# Altium footprint library 613 0xx 257 21.PcbLib: 14 footprints
Each footprint in its own frame and in the unit in brackets; x right, y up, seen from the top. Pads: shape width x height; smd on the part's side, far side on the other; paste and mask are expansions set on the pad; w line width, h text height; cw(c..) or ccw(c..) is an arc to the next point about the centre after c.
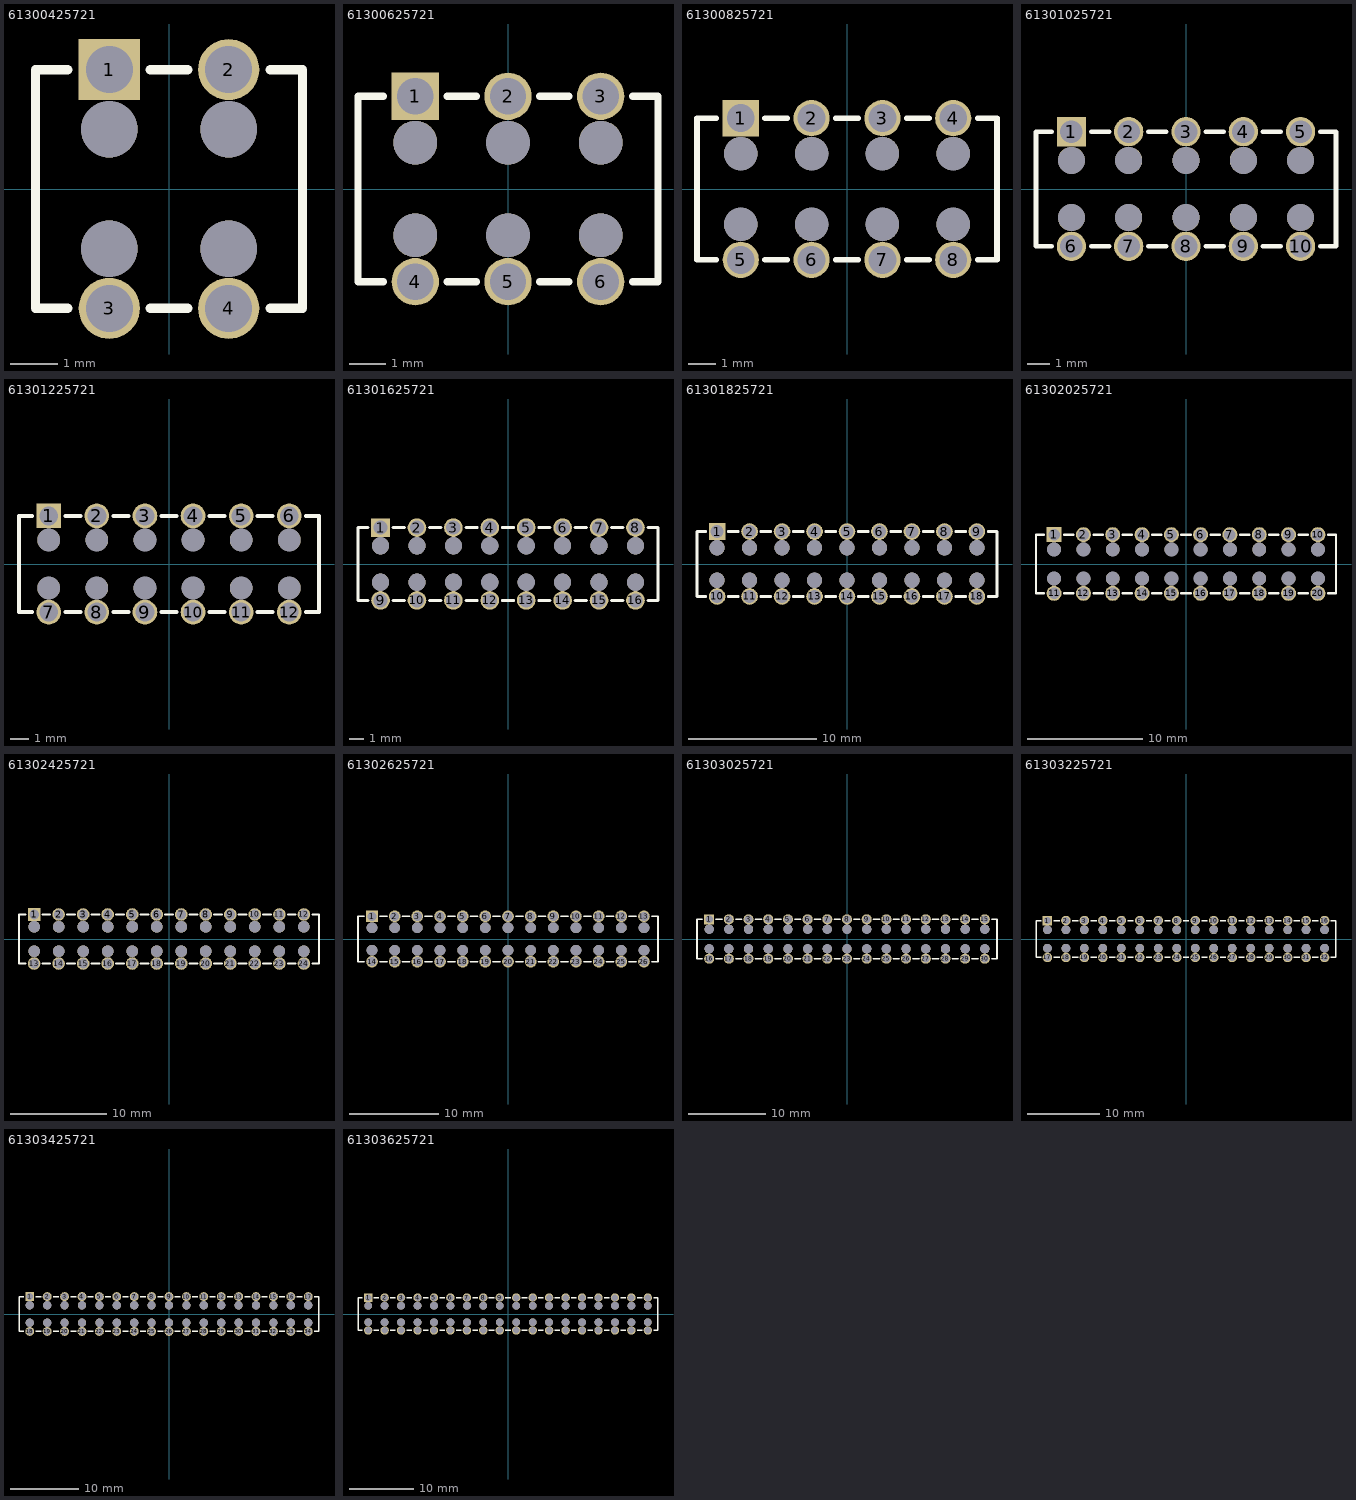
[diagram p0: the footprints below, top view; thin cyan lines are the x and y axes]

## 61300425721 [mm] "4 pins, dual row, straight, gold plating"
height 5
pads (8):
  rect 1.3x1.3 hole 1: 1(-1.27,2.54)
  round 1.3 hole 1: 2(1.27,2.54) 3(-1.27,-2.54) 4(1.27,-2.54)
  round 1.2 hole 1.2 unplated mask+0: ""(-1.27,-1.27) ""(-1.27,1.27) ""(1.27,-1.27) ""(1.27,1.27)
Top Overlay:
  lines w0.2: -2.15,-2.54 -2.84,-2.54 -2.84,2.54 -2.15,2.54 ; -0.4,-2.54 0.4,-2.54 ; -0.4,2.54 0.4,2.54 ; 2.15,-2.54 2.84,-2.54 2.84,2.54 2.15,2.54
3D body "61300425721.stp": height 5.1, standoff -3, extent -2.84,-2.665 2.84,2.665

## 61300625721 [mm] "6 pins, dual row, straight, gold plating"
height 5
pads (12):
  rect 1.3x1.3 hole 1: 1(-2.54,2.54)
  round 1.3 hole 1: 2(0,2.54) 3(2.54,2.54) 4(-2.54,-2.54) 5(0,-2.54) 6(2.54,-2.54)
  round 1.2 hole 1.2 unplated mask+0: ""(-2.54,-1.27) ""(-2.54,1.27) ""(0,-1.27) ""(0,1.27) ""(2.54,-1.27) ""(2.54,1.27)
Top Overlay:
  lines w0.2: -3.42,-2.54 -4.11,-2.54 -4.11,2.54 -3.42,2.54 ; -1.67,-2.54 -0.87,-2.54 ; -1.67,2.54 -0.87,2.54 ; 0.87,-2.54 1.67,-2.54 ; 0.87,2.54 1.67,2.54 ; 3.42,-2.54 4.11,-2.54 4.11,2.54 3.42,2.54
3D body "61300625721.stp": height 5.1, standoff -3, extent -4.11,-2.665 4.11,2.665

## 61300825721 [mm] "8 pins, dual row, straight, gold plating"
height 5
pads (16):
  rect 1.3x1.3 hole 1: 1(-3.81,2.54)
  round 1.3 hole 1: 2(-1.27,2.54) 3(1.27,2.54) 4(3.81,2.54) 5(-3.81,-2.54) 6(-1.27,-2.54) 7(1.27,-2.54) 8(3.81,-2.54)
  round 1.2 hole 1.2 unplated mask+0: ""(-3.81,-1.27) ""(-3.81,1.27) ""(-1.27,-1.27) ""(-1.27,1.27) ""(1.27,-1.27) ""(1.27,1.27) ""(3.81,-1.27) ""(3.81,1.27)
Top Overlay:
  lines w0.2: -4.69,-2.54 -5.38,-2.54 -5.38,2.54 -4.69,2.54 ; -2.94,-2.54 -2.14,-2.54 ; -2.94,2.54 -2.14,2.54 ; -0.4,-2.54 0.4,-2.54 ; -0.4,2.54 0.4,2.54 ; 2.14,-2.54 2.94,-2.54 ; 2.14,2.54 2.94,2.54 ; 4.69,-2.54 5.38,-2.54 5.38,2.54 4.69,2.54
3D body "61300825721.stp": height 5.1, standoff -3, extent -5.38,-2.665 5.38,2.665

## 61301025721 [mm] "10 pins, dual row, straight, gold plating"
height 5
pads (20):
  rect 1.3x1.3 hole 1: 1(-5.08,2.54)
  round 1.3 hole 1: 2(-2.54,2.54) 3(0,2.54) 4(2.54,2.54) 5(5.08,2.54) 6(-5.08,-2.54) 7(-2.54,-2.54) 8(0,-2.54) 9(2.54,-2.54) 10(5.08,-2.54)
  round 1.2 hole 1.2 unplated mask+0: ""(-5.08,-1.27) ""(-5.08,1.27) ""(-2.54,-1.27) ""(-2.54,1.27) ""(0,-1.27) ""(0,1.27) ""(2.54,-1.27) ""(2.54,1.27) ""(5.08,-1.27) ""(5.08,1.27)
Top Overlay:
  lines w0.2: -5.96,-2.54 -6.65,-2.54 -6.65,2.54 -5.96,2.54 ; -4.21,-2.54 -3.41,-2.54 ; -4.21,2.54 -3.41,2.54 ; -1.67,-2.54 -0.87,-2.54 ; -1.67,2.54 -0.87,2.54 ; 0.87,-2.54 1.67,-2.54 ; 0.87,2.54 1.67,2.54 ; 3.41,-2.54 4.21,-2.54 ; 3.41,2.54 4.21,2.54 ; 5.96,-2.54 6.65,-2.54 6.65,2.54 5.96,2.54
3D body "61301025721.stp": height 5.1, standoff -3, extent -6.65,-2.665 6.65,2.665

## 61301225721 [mm] "12 pins, dual row, straight, gold plating"
height 5
pads (24):
  rect 1.3x1.3 hole 1: 1(-6.35,2.54)
  round 1.3 hole 1: 2(-3.81,2.54) 3(-1.27,2.54) 4(1.27,2.54) 5(3.81,2.54) 6(6.35,2.54) 7(-6.35,-2.54) 8(-3.81,-2.54) 9(-1.27,-2.54) 10(1.27,-2.54) 11(3.81,-2.54) 12(6.35,-2.54)
  round 1.2 hole 1.2 unplated mask+0: ""(-6.35,-1.27) ""(-6.35,1.27) ""(-3.81,-1.27) ""(-3.81,1.27) ""(-1.27,-1.27) ""(-1.27,1.27) ""(1.27,-1.27) ""(1.27,1.27) ""(3.81,-1.27) ""(3.81,1.27) ""(6.35,-1.27) ""(6.35,1.27)
Top Overlay:
  lines w0.2: -7.23,-2.54 -7.92,-2.54 -7.92,2.54 -7.23,2.54 ; -5.48,-2.54 -4.68,-2.54 ; -5.48,2.54 -4.68,2.54 ; -2.94,-2.54 -2.14,-2.54 ; -2.94,2.54 -2.14,2.54 ; -0.4,-2.54 0.4,-2.54 ; -0.4,2.54 0.4,2.54 ; 2.14,-2.54 2.94,-2.54 ; 2.14,2.54 2.94,2.54 ; 4.68,-2.54 5.48,-2.54 ; 4.68,2.54 5.48,2.54 ; 7.23,-2.54 7.92,-2.54 7.92,2.54 7.23,2.54
3D body "61301225721.stp": height 5.1, standoff -3, extent -7.92,-2.665 7.92,2.665

## 61301625721 [mm] "16 pins, dual row, straight, gold plating"
height 5
pads (32):
  rect 1.3x1.3 hole 1: 1(-8.89,2.54)
  round 1.3 hole 1: 2(-6.35,2.54) 3(-3.81,2.54) 4(-1.27,2.54) 5(1.27,2.54) 6(3.81,2.54) 7(6.35,2.54) 8(8.89,2.54) 9(-8.89,-2.54) 10(-6.35,-2.54) 11(-3.81,-2.54) 12(-1.27,-2.54) 13(1.27,-2.54) 14(3.81,-2.54) 15(6.35,-2.54) 16(8.89,-2.54)
  round 1.2 hole 1.2 unplated mask+0: ""(-8.89,-1.27) ""(-8.89,1.27) ""(-6.35,-1.27) ""(-6.35,1.27) ""(-3.81,-1.27) ""(-3.81,1.27) ""(-1.27,-1.27) ""(-1.27,1.27) ""(1.27,-1.27) ""(1.27,1.27) ""(3.81,-1.27) ""(3.81,1.27) ""(6.35,-1.27) ""(6.35,1.27) ""(8.89,-1.27) ""(8.89,1.27)
Top Overlay:
  lines w0.2: -9.77,-2.54 -10.46,-2.54 -10.46,2.54 -9.77,2.54 ; -8.02,-2.54 -7.22,-2.54 ; -8.02,2.54 -7.22,2.54 ; -5.48,-2.54 -4.68,-2.54 ; -5.48,2.54 -4.68,2.54 ; -2.94,-2.54 -2.14,-2.54 ; -2.94,2.54 -2.14,2.54 ; -0.4,-2.54 0.4,-2.54 ; -0.4,2.54 0.4,2.54 ; 2.14,-2.54 2.94,-2.54 ; 2.14,2.54 2.94,2.54 ; 4.68,-2.54 5.48,-2.54 ; 4.68,2.54 5.48,2.54 ; 7.22,-2.54 8.02,-2.54 ; 7.22,2.54 8.02,2.54 ; 9.77,-2.54 10.46,-2.54 10.46,2.54 9.77,2.54
3D body "61301625721.stp": height 5.1, standoff -3, extent -10.46,-2.665 10.46,2.665

## 61301825721 [mm] "18 pins, dual row, straight, gold plating"
height 5
pads (36):
  rect 1.3x1.3 hole 1: 1(-10.16,2.54)
  round 1.3 hole 1: 2(-7.62,2.54) 3(-5.08,2.54) 4(-2.54,2.54) 5(0,2.54) 6(2.54,2.54) 7(5.08,2.54) 8(7.62,2.54) 9(10.16,2.54) 10(-10.16,-2.54) 11(-7.62,-2.54) 12(-5.08,-2.54) 13(-2.54,-2.54) 14(0,-2.54) 15(2.54,-2.54) 16(5.08,-2.54) 17(7.62,-2.54) 18(10.16,-2.54)
  round 1.2 hole 1.2 unplated mask+0: ""(-10.16,-1.27) ""(-10.16,1.27) ""(-7.62,-1.27) ""(-7.62,1.27) ""(-5.08,-1.27) ""(-5.08,1.27) ""(-2.54,-1.27) ""(-2.54,1.27) ""(0,-1.27) ""(0,1.27) ""(2.54,-1.27) ""(2.54,1.27) ""(5.08,-1.27) ""(5.08,1.27) ""(7.62,-1.27) ""(7.62,1.27) ""(10.16,-1.27) ""(10.16,1.27)
Top Overlay:
  lines w0.2: -11.04,-2.54 -11.73,-2.54 -11.73,2.54 -11.04,2.54 ; -9.29,-2.54 -8.49,-2.54 ; -9.29,2.54 -8.49,2.54 ; -6.75,-2.54 -5.95,-2.54 ; -6.75,2.54 -5.95,2.54 ; -4.21,-2.54 -3.41,-2.54 ; -4.21,2.54 -3.41,2.54 ; -1.67,-2.54 -0.87,-2.54 ; -1.67,2.54 -0.87,2.54 ; 0.87,-2.54 1.67,-2.54 ; 0.87,2.54 1.67,2.54 ; 3.41,-2.54 4.21,-2.54 ; 3.41,2.54 4.21,2.54 ; 5.95,-2.54 6.75,-2.54 ; 5.95,2.54 6.75,2.54 ; 8.49,-2.54 9.29,-2.54 ; 8.49,2.54 9.29,2.54 ; 11.04,-2.54 11.73,-2.54 11.73,2.54 11.04,2.54
3D body "61301825721.stp": height 5.1, standoff -3, extent -11.73,-2.665 11.73,2.665

## 61302025721 [mm] "20 pins, dual row, straight, gold plating"
height 5
pads (40):
  rect 1.3x1.3 hole 1: 1(-11.43,2.54)
  round 1.3 hole 1: 2(-8.89,2.54) 3(-6.35,2.54) 4(-3.81,2.54) 5(-1.27,2.54) 6(1.27,2.54) 7(3.81,2.54) 8(6.35,2.54) 9(8.89,2.54) 10(11.43,2.54) 11(-11.43,-2.54) 12(-8.89,-2.54) 13(-6.35,-2.54) 14(-3.81,-2.54) 15(-1.27,-2.54) 16(1.27,-2.54) 17(3.81,-2.54) 18(6.35,-2.54) 19(8.89,-2.54) 20(11.43,-2.54)
  round 1.2 hole 1.2 unplated mask+0: ""(-11.43,-1.27) ""(-11.43,1.27) ""(-8.89,-1.27) ""(-8.89,1.27) ""(-6.35,-1.27) ""(-6.35,1.27) ""(-3.81,-1.27) ""(-3.81,1.27) ""(-1.27,-1.27) ""(-1.27,1.27) ""(1.27,-1.27) ""(1.27,1.27) ""(3.81,-1.27) ""(3.81,1.27) ""(6.35,-1.27) ""(6.35,1.27) ""(8.89,-1.27) ""(8.89,1.27) ""(11.43,-1.27) ""(11.43,1.27)
Top Overlay:
  lines w0.2: -12.31,-2.54 -13,-2.54 -13,2.54 -12.31,2.54 ; -10.56,-2.54 -9.76,-2.54 ; -10.56,2.54 -9.76,2.54 ; -8.02,-2.54 -7.22,-2.54 ; -8.02,2.54 -7.22,2.54 ; -5.48,-2.54 -4.68,-2.54 ; -5.48,2.54 -4.68,2.54 ; -2.94,-2.54 -2.14,-2.54 ; -2.94,2.54 -2.14,2.54 ; -0.4,-2.54 0.4,-2.54 ; -0.4,2.54 0.4,2.54 ; 2.14,-2.54 2.94,-2.54 ; 2.14,2.54 2.94,2.54 ; 4.68,-2.54 5.48,-2.54 ; 4.68,2.54 5.48,2.54 ; 7.22,-2.54 8.02,-2.54 ; 7.22,2.54 8.02,2.54 ; 9.76,-2.54 10.56,-2.54 ; 9.76,2.54 10.56,2.54 ; 12.31,-2.54 13,-2.54 13,2.54 12.31,2.54
3D body "61302025721.stp": height 5.1, standoff -3, extent -13,-2.665 13,2.665

## 61302425721 [mm] "24 pins, dual row, straight, gold plating"
height 5
pads (48):
  rect 1.3x1.3 hole 1: 1(-13.97,2.54)
  round 1.3 hole 1: 2(-11.43,2.54) 3(-8.89,2.54) 4(-6.35,2.54) 5(-3.81,2.54) 6(-1.27,2.54) 7(1.27,2.54) 8(3.81,2.54) 9(6.35,2.54) 10(8.89,2.54) 11(11.43,2.54) 12(13.97,2.54) 13(-13.97,-2.54) 14(-11.43,-2.54) 15(-8.89,-2.54) 16(-6.35,-2.54) 17(-3.81,-2.54) 18(-1.27,-2.54) 19(1.27,-2.54) 20(3.81,-2.54) 21(6.35,-2.54) 22(8.89,-2.54) 23(11.43,-2.54) 24(13.97,-2.54)
  round 1.2 hole 1.2 unplated mask+0: ""(-13.97,-1.27) ""(-13.97,1.27) ""(-11.43,-1.27) ""(-11.43,1.27) ""(-8.89,-1.27) ""(-8.89,1.27) ""(-6.35,-1.27) ""(-6.35,1.27) ""(-3.81,-1.27) ""(-3.81,1.27) ""(-1.27,-1.27) ""(-1.27,1.27) ""(1.27,-1.27) ""(1.27,1.27) ""(3.81,-1.27) ""(3.81,1.27) ""(6.35,-1.27) ""(6.35,1.27) ""(8.89,-1.27) ""(8.89,1.27) ""(11.43,-1.27) ""(11.43,1.27) ""(13.97,-1.27) ""(13.97,1.27)
Top Overlay:
  lines w0.2: -14.85,-2.54 -15.54,-2.54 -15.54,2.54 -14.85,2.54 ; -13.1,-2.54 -12.3,-2.54 ; -13.1,2.54 -12.3,2.54 ; -10.56,-2.54 -9.76,-2.54 ; -10.56,2.54 -9.76,2.54 ; -8.02,-2.54 -7.22,-2.54 ; -8.02,2.54 -7.22,2.54 ; -5.48,-2.54 -4.68,-2.54 ; -5.48,2.54 -4.68,2.54 ; -2.94,-2.54 -2.14,-2.54 ; -2.94,2.54 -2.14,2.54 ; -0.4,-2.54 0.4,-2.54 ; -0.4,2.54 0.4,2.54 ; 2.14,-2.54 2.94,-2.54 ; 2.14,2.54 2.94,2.54 ; 4.68,-2.54 5.48,-2.54 ; 4.68,2.54 5.48,2.54 ; 7.22,-2.54 8.02,-2.54 ; 7.22,2.54 8.02,2.54 ; 9.76,-2.54 10.56,-2.54 ; 9.76,2.54 10.56,2.54 ; 12.3,-2.54 13.1,-2.54 ; 12.3,2.54 13.1,2.54 ; 14.85,-2.54 15.54,-2.54 15.54,2.54 14.85,2.54
3D body "61302425721.stp": height 5.1, standoff -3, extent -15.54,-2.665 15.54,2.665

## 61302625721 [mm] "26 pins, dual row, straight, gold plating"
height 5
pads (52):
  rect 1.3x1.3 hole 1: 1(-15.24,2.54)
  round 1.3 hole 1: 2(-12.7,2.54) 3(-10.16,2.54) 4(-7.62,2.54) 5(-5.08,2.54) 6(-2.54,2.54) 7(0,2.54) 8(2.54,2.54) 9(5.08,2.54) 10(7.62,2.54) 11(10.16,2.54) 12(12.7,2.54) 13(15.24,2.54) 14(-15.24,-2.54) 15(-12.7,-2.54) 16(-10.16,-2.54) 17(-7.62,-2.54) 18(-5.08,-2.54) 19(-2.54,-2.54) 20(0,-2.54) 21(2.54,-2.54) 22(5.08,-2.54) 23(7.62,-2.54) 24(10.16,-2.54) 25(12.7,-2.54) 26(15.24,-2.54)
  round 1.2 hole 1.2 unplated mask+0: ""(-15.24,-1.27) ""(-15.24,1.27) ""(-12.7,-1.27) ""(-12.7,1.27) ""(-10.16,-1.27) ""(-10.16,1.27) ""(-7.62,-1.27) ""(-7.62,1.27) ""(-5.08,-1.27) ""(-5.08,1.27) ""(-2.54,-1.27) ""(-2.54,1.27) ""(0,-1.27) ""(0,1.27) ""(2.54,-1.27) ""(2.54,1.27) ""(5.08,-1.27) ""(5.08,1.27) ""(7.62,-1.27) ""(7.62,1.27) ""(10.16,-1.27) ""(10.16,1.27) ""(12.7,-1.27) ""(12.7,1.27) ""(15.24,-1.27) ""(15.24,1.27)
Top Overlay:
  lines w0.2: -16.12,-2.54 -16.81,-2.54 -16.81,2.54 -16.12,2.54 ; -14.37,-2.54 -13.57,-2.54 ; -14.37,2.54 -13.57,2.54 ; -11.83,-2.54 -11.03,-2.54 ; -11.83,2.54 -11.03,2.54 ; -9.29,-2.54 -8.49,-2.54 ; -9.29,2.54 -8.49,2.54 ; -6.75,-2.54 -5.95,-2.54 ; -6.75,2.54 -5.95,2.54 ; -4.21,-2.54 -3.41,-2.54 ; -4.21,2.54 -3.41,2.54 ; -1.67,-2.54 -0.87,-2.54 ; -1.67,2.54 -0.87,2.54 ; 0.87,-2.54 1.67,-2.54 ; 0.87,2.54 1.67,2.54 ; 3.41,-2.54 4.21,-2.54 ; 3.41,2.54 4.21,2.54 ; 5.95,-2.54 6.75,-2.54 ; 5.95,2.54 6.75,2.54 ; 8.49,-2.54 9.29,-2.54 ; 8.49,2.54 9.29,2.54 ; 11.03,-2.54 11.83,-2.54 ; 11.03,2.54 11.83,2.54 ; 13.57,-2.54 14.37,-2.54 ; 13.57,2.54 14.37,2.54 ; 16.12,-2.54 16.81,-2.54 16.81,2.54 16.12,2.54
3D body "61302625721.stp": height 5.1, standoff -3, extent -16.81,-2.665 16.81,2.665

## 61303025721 [mm] "30 pins, dual row, straight, gold plating"
height 5
pads (60):
  rect 1.3x1.3 hole 1: 1(-17.78,2.54)
  round 1.3 hole 1: 2(-15.24,2.54) 3(-12.7,2.54) 4(-10.16,2.54) 5(-7.62,2.54) 6(-5.08,2.54) 7(-2.54,2.54) 8(0,2.54) 9(2.54,2.54) 10(5.08,2.54) 11(7.62,2.54) 12(10.16,2.54) 13(12.7,2.54) 14(15.24,2.54) 15(17.78,2.54) 16(-17.78,-2.54) 17(-15.24,-2.54) 18(-12.7,-2.54) 19(-10.16,-2.54) 20(-7.62,-2.54) 21(-5.08,-2.54) 22(-2.54,-2.54) 23(0,-2.54) 24(2.54,-2.54) 25(5.08,-2.54) 26(7.62,-2.54) 27(10.16,-2.54) 28(12.7,-2.54) 29(15.24,-2.54) 30(17.78,-2.54)
  round 1.2 hole 1.2 unplated mask+0: ""(-17.78,-1.27) ""(-17.78,1.27) ""(-15.24,-1.27) ""(-15.24,1.27) ""(-12.7,-1.27) ""(-12.7,1.27) ""(-10.16,-1.27) ""(-10.16,1.27) ""(-7.62,-1.27) ""(-7.62,1.27) ""(-5.08,-1.27) ""(-5.08,1.27) ""(-2.54,-1.27) ""(-2.54,1.27) ""(0,-1.27) ""(0,1.27) ""(2.54,-1.27) ""(2.54,1.27) ""(5.08,-1.27) ""(5.08,1.27) ""(7.62,-1.27) ""(7.62,1.27) ""(10.16,-1.27) ""(10.16,1.27) ""(12.7,-1.27) ""(12.7,1.27) ""(15.24,-1.27) ""(15.24,1.27) ""(17.78,-1.27) ""(17.78,1.27)
Top Overlay:
  lines w0.2: -18.66,-2.54 -19.35,-2.54 -19.35,2.54 -18.66,2.54 ; -16.91,-2.54 -16.11,-2.54 ; -16.91,2.54 -16.11,2.54 ; -14.37,-2.54 -13.57,-2.54 ; -14.37,2.54 -13.57,2.54 ; -11.83,-2.54 -11.03,-2.54 ; -11.83,2.54 -11.03,2.54 ; -9.29,-2.54 -8.49,-2.54 ; -9.29,2.54 -8.49,2.54 ; -6.75,-2.54 -5.95,-2.54 ; -6.75,2.54 -5.95,2.54 ; -4.21,-2.54 -3.41,-2.54 ; -4.21,2.54 -3.41,2.54 ; -1.67,-2.54 -0.87,-2.54 ; -1.67,2.54 -0.87,2.54 ; 0.87,-2.54 1.67,-2.54 ; 0.87,2.54 1.67,2.54 ; 3.41,-2.54 4.21,-2.54 ; 3.41,2.54 4.21,2.54 ; 5.95,-2.54 6.75,-2.54 ; 5.95,2.54 6.75,2.54 ; 8.49,-2.54 9.29,-2.54 ; 8.49,2.54 9.29,2.54 ; 11.03,-2.54 11.83,-2.54 ; 11.03,2.54 11.83,2.54 ; 13.57,-2.54 14.37,-2.54 ; 13.57,2.54 14.37,2.54 ; 16.11,-2.54 16.91,-2.54 ; 16.11,2.54 16.91,2.54 ; 18.66,-2.54 19.35,-2.54 19.35,2.54 18.66,2.54
3D body "61303025721.stp": height 5.1, standoff -3, extent -19.35,-2.665 19.35,2.665

## 61303225721 [mm] "32 pins, dual row, straight, gold plating"
height 5
pads (64):
  rect 1.3x1.3 hole 1: 1(-19.05,2.54)
  round 1.3 hole 1: 2(-16.51,2.54) 3(-13.97,2.54) 4(-11.43,2.54) 5(-8.89,2.54) 6(-6.35,2.54) 7(-3.81,2.54) 8(-1.27,2.54) 9(1.27,2.54) 10(3.81,2.54) 11(6.35,2.54) 12(8.89,2.54) 13(11.43,2.54) 14(13.97,2.54) 15(16.51,2.54) 16(19.05,2.54) 17(-19.05,-2.54) 18(-16.51,-2.54) 19(-13.97,-2.54) 20(-11.43,-2.54) 21(-8.89,-2.54) 22(-6.35,-2.54) 23(-3.81,-2.54) 24(-1.27,-2.54) 25(1.27,-2.54) 26(3.81,-2.54) 27(6.35,-2.54) 28(8.89,-2.54) 29(11.43,-2.54) 30(13.97,-2.54) 31(16.51,-2.54) 32(19.05,-2.54)
  round 1.2 hole 1.2 unplated mask+0: ""(-19.05,-1.27) ""(-19.05,1.27) ""(-16.51,-1.27) ""(-16.51,1.27) ""(-13.97,-1.27) ""(-13.97,1.27) ""(-11.43,-1.27) ""(-11.43,1.27) ""(-8.89,-1.27) ""(-8.89,1.27) ""(-6.35,-1.27) ""(-6.35,1.27) ""(-3.81,-1.27) ""(-3.81,1.27) ""(-1.27,-1.27) ""(-1.27,1.27) ""(1.27,-1.27) ""(1.27,1.27) ""(3.81,-1.27) ""(3.81,1.27) ""(6.35,-1.27) ""(6.35,1.27) ""(8.89,-1.27) ""(8.89,1.27) ""(11.43,-1.27) ""(11.43,1.27) ""(13.97,-1.27) ""(13.97,1.27) ""(16.51,-1.27) ""(16.51,1.27) ""(19.05,-1.27) ""(19.05,1.27)
Top Overlay:
  lines w0.2: -19.93,-2.54 -20.62,-2.54 -20.62,2.54 -19.93,2.54 ; -18.18,-2.54 -17.38,-2.54 ; -18.18,2.54 -17.38,2.54 ; -15.64,-2.54 -14.84,-2.54 ; -15.64,2.54 -14.84,2.54 ; -13.1,-2.54 -12.3,-2.54 ; -13.1,2.54 -12.3,2.54 ; -10.56,-2.54 -9.76,-2.54 ; -10.56,2.54 -9.76,2.54 ; -8.02,-2.54 -7.22,-2.54 ; -8.02,2.54 -7.22,2.54 ; -5.48,-2.54 -4.68,-2.54 ; -5.48,2.54 -4.68,2.54 ; -2.94,-2.54 -2.14,-2.54 ; -2.94,2.54 -2.14,2.54 ; -0.4,-2.54 0.4,-2.54 ; -0.4,2.54 0.4,2.54 ; 2.14,-2.54 2.94,-2.54 ; 2.14,2.54 2.94,2.54 ; 4.68,-2.54 5.48,-2.54 ; 4.68,2.54 5.48,2.54 ; 7.22,-2.54 8.02,-2.54 ; 7.22,2.54 8.02,2.54 ; 9.76,-2.54 10.56,-2.54 ; 9.76,2.54 10.56,2.54 ; 12.3,-2.54 13.1,-2.54 ; 12.3,2.54 13.1,2.54 ; 14.84,-2.54 15.64,-2.54 ; 14.84,2.54 15.64,2.54 ; 17.38,-2.54 18.18,-2.54 ; 17.38,2.54 18.18,2.54 ; 19.93,-2.54 20.62,-2.54 20.62,2.54 19.93,2.54
3D body "61303225721.stp": height 5.1, standoff -3, extent -20.62,-2.665 20.62,2.665

## 61303425721 [mm] "34 pins, dual row, straight, gold plating"
height 5
pads (68):
  rect 1.3x1.3 hole 1: 1(-20.32,2.54)
  round 1.3 hole 1: 2(-17.78,2.54) 3(-15.24,2.54) 4(-12.7,2.54) 5(-10.16,2.54) 6(-7.62,2.54) 7(-5.08,2.54) 8(-2.54,2.54) 9(0,2.54) 10(2.54,2.54) 11(5.08,2.54) 12(7.62,2.54) 13(10.16,2.54) 14(12.7,2.54) 15(15.24,2.54) 16(17.78,2.54) 17(20.32,2.54) 18(-20.32,-2.54) 19(-17.78,-2.54) 20(-15.24,-2.54) 21(-12.7,-2.54) 22(-10.16,-2.54) 23(-7.62,-2.54) 24(-5.08,-2.54) 25(-2.54,-2.54) 26(0,-2.54) 27(2.54,-2.54) 28(5.08,-2.54) 29(7.62,-2.54) 30(10.16,-2.54) 31(12.7,-2.54) 32(15.24,-2.54) 33(17.78,-2.54) 34(20.32,-2.54)
  round 1.2 hole 1.2 unplated mask+0: ""(-20.32,-1.27) ""(-20.32,1.27) ""(-17.78,-1.27) ""(-17.78,1.27) ""(-15.24,-1.27) ""(-15.24,1.27) ""(-12.7,-1.27) ""(-12.7,1.27) ""(-10.16,-1.27) ""(-10.16,1.27) ""(-7.62,-1.27) ""(-7.62,1.27) ""(-5.08,-1.27) ""(-5.08,1.27) ""(-2.54,-1.27) ""(-2.54,1.27) ""(0,-1.27) ""(0,1.27) ""(2.54,-1.27) ""(2.54,1.27) ""(5.08,-1.27) ""(5.08,1.27) ""(7.62,-1.27) ""(7.62,1.27) ""(10.16,-1.27) ""(10.16,1.27) ""(12.7,-1.27) ""(12.7,1.27) ""(15.24,-1.27) ""(15.24,1.27) ""(17.78,-1.27) ""(17.78,1.27) ""(20.32,-1.27) ""(20.32,1.27)
Top Overlay:
  lines w0.2: -21.2,-2.54 -21.89,-2.54 -21.89,2.54 -21.2,2.54 ; -19.45,-2.54 -18.65,-2.54 ; -19.45,2.54 -18.65,2.54 ; -16.91,-2.54 -16.11,-2.54 ; -16.91,2.54 -16.11,2.54 ; -14.37,-2.54 -13.57,-2.54 ; -14.37,2.54 -13.57,2.54 ; -11.83,-2.54 -11.03,-2.54 ; -11.83,2.54 -11.03,2.54 ; -9.29,-2.54 -8.49,-2.54 ; -9.29,2.54 -8.49,2.54 ; -6.75,-2.54 -5.95,-2.54 ; -6.75,2.54 -5.95,2.54 ; -4.21,-2.54 -3.41,-2.54 ; -4.21,2.54 -3.41,2.54 ; -1.67,-2.54 -0.87,-2.54 ; -1.67,2.54 -0.87,2.54 ; 0.87,-2.54 1.67,-2.54 ; 0.87,2.54 1.67,2.54 ; 3.41,-2.54 4.21,-2.54 ; 3.41,2.54 4.21,2.54 ; 5.95,-2.54 6.75,-2.54 ; 5.95,2.54 6.75,2.54 ; 8.49,-2.54 9.29,-2.54 ; 8.49,2.54 9.29,2.54 ; 11.03,-2.54 11.83,-2.54 ; 11.03,2.54 11.83,2.54 ; 13.57,-2.54 14.37,-2.54 ; 13.57,2.54 14.37,2.54 ; 16.11,-2.54 16.91,-2.54 ; 16.11,2.54 16.91,2.54 ; 18.65,-2.54 19.45,-2.54 ; 18.65,2.54 19.45,2.54 ; 21.2,-2.54 21.89,-2.54 21.89,2.54 21.2,2.54
3D body "61303425721.stp": height 5.1, standoff -3, extent -21.89,-2.665 21.89,2.665

## 61303625721 [mm] "36 pins, dual row, straight, gold plating"
height 5
pads (72):
  rect 1.3x1.3 hole 1: 1(-21.59,2.54)
  round 1.3 hole 1: 2(-19.05,2.54) 3(-16.51,2.54) 4(-13.97,2.54) 5(-11.43,2.54) 6(-8.89,2.54) 7(-6.35,2.54) 8(-3.81,2.54) 9(-1.27,2.54) 10(1.27,2.54) 11(3.81,2.54) 12(6.35,2.54) 13(8.89,2.54) 14(11.43,2.54) 15(13.97,2.54) 16(16.51,2.54) 17(19.05,2.54) 18(21.59,2.54) 19(-21.59,-2.54) 20(-19.05,-2.54) 21(-16.51,-2.54) 22(-13.97,-2.54) 23(-11.43,-2.54) 24(-8.89,-2.54) 25(-6.35,-2.54) 26(-3.81,-2.54) 27(-1.27,-2.54) 28(1.27,-2.54) 29(3.81,-2.54) 30(6.35,-2.54) 31(8.89,-2.54) 32(11.43,-2.54) 33(13.97,-2.54) 34(16.51,-2.54) 35(19.05,-2.54) 36(21.59,-2.54)
  round 1.2 hole 1.2 unplated mask+0: ""(-21.59,-1.27) ""(-21.59,1.27) ""(-19.05,-1.27) ""(-19.05,1.27) ""(-16.51,-1.27) ""(-16.51,1.27) ""(-13.97,-1.27) ""(-13.97,1.27) ""(-11.43,-1.27) ""(-11.43,1.27) ""(-8.89,-1.27) ""(-8.89,1.27) ""(-6.35,-1.27) ""(-6.35,1.27) ""(-3.81,-1.27) ""(-3.81,1.27) ""(-1.27,-1.27) ""(-1.27,1.27) ""(1.27,-1.27) ""(1.27,1.27) ""(3.81,-1.27) ""(3.81,1.27) ""(6.35,-1.27) ""(6.35,1.27) ""(8.89,-1.27) ""(8.89,1.27) ""(11.43,-1.27) ""(11.43,1.27) ""(13.97,-1.27) ""(13.97,1.27) ""(16.51,-1.27) ""(16.51,1.27) ""(19.05,-1.27) ""(19.05,1.27) ""(21.59,-1.27) ""(21.59,1.27)
Top Overlay:
  lines w0.2: -22.47,-2.54 -23.16,-2.54 -23.16,2.54 -22.47,2.54 ; -20.72,-2.54 -19.92,-2.54 ; -20.72,2.54 -19.92,2.54 ; -18.18,-2.54 -17.38,-2.54 ; -18.18,2.54 -17.38,2.54 ; -15.64,-2.54 -14.84,-2.54 ; -15.64,2.54 -14.84,2.54 ; -13.1,-2.54 -12.3,-2.54 ; -13.1,2.54 -12.3,2.54 ; -10.56,-2.54 -9.76,-2.54 ; -10.56,2.54 -9.76,2.54 ; -8.02,-2.54 -7.22,-2.54 ; -8.02,2.54 -7.22,2.54 ; -5.48,-2.54 -4.68,-2.54 ; -5.48,2.54 -4.68,2.54 ; -2.94,-2.54 -2.14,-2.54 ; -2.94,2.54 -2.14,2.54 ; -0.4,-2.54 0.4,-2.54 ; -0.4,2.54 0.4,2.54 ; 2.14,-2.54 2.94,-2.54 ; 2.14,2.54 2.94,2.54 ; 4.68,-2.54 5.48,-2.54 ; 4.68,2.54 5.48,2.54 ; 7.22,-2.54 8.02,-2.54 ; 7.22,2.54 8.02,2.54 ; 9.76,-2.54 10.56,-2.54 ; 9.76,2.54 10.56,2.54 ; 12.3,-2.54 13.1,-2.54 ; 12.3,2.54 13.1,2.54 ; 14.84,-2.54 15.64,-2.54 ; 14.84,2.54 15.64,2.54 ; 17.38,-2.54 18.18,-2.54 ; 17.38,2.54 18.18,2.54 ; 19.92,-2.54 20.72,-2.54 ; 19.92,2.54 20.72,2.54 ; 22.47,-2.54 23.16,-2.54 23.16,2.54 22.47,2.54
3D body "61303625721.stp": height 5.1, standoff -3, extent -23.16,-2.665 23.16,2.665